# EAGLE library part MCU_ATTINY291 (library power_distro)
8-bit Microcontroller with 2/4/8K Bytes In-System Programmable Flash High Performance, Low Power AVR® 8-Bit Microcontroller Advanced RISC Architecture ? 123 Powerful Instructions ? Most Single Clock Cycle Execution ? 32 x 8 General Purpose Working Registers ? Fully Static Operation ? Up to 20 MIPS Throughput at 20 MHz High Endurance Non-volatile Memory Segments ? 2/4/8K Bytes of In-System Self-Programmable Flash Program Memory Endurance: 10,000 Write/Erase Cycles ? 128/256/512 Bytes of In-System Programmable EEPROM ? Endurance: 100,000 Write/Erase Cycles ? 128/256/512 Bytes of Internal SRAM ? Data retention: 20 Years at 85°C / 100 Years at 25°C ? In-System Programmable via SPI Port ? Programming Lock for Software Security Peripheral Features ? One 8/16-bit Timer/Counter with Prescaler ? One 8/10-bit High Speed Timer/Counter with Prescaler ? 3 High Frequency PWM Outputs with Separate Output Compare Registers ? Programmable Dead Time Generator ? 10-bit ADC ? 11 Single-Ended Channels ? 16 Differential ADC Channel Pairs ? 15 Differential ADC Channel Pairs with Programmable Gain (1x, 8x, 20x, 32x) ? On-Chip Analog Comparator ? Programmable Watchdog Timer with Separate On-Chip Oscillator ? Universal Serial Interface with Start Condition Detector ? Interrupt and Wake-up on Pin Change ? Special Microcontroller Features ? debugWIRE On-Chip Debug System ? Power-on Reset and Programmable Brown-out Detection ? Internal Calibrated Oscillator ? External and Internal Interrupt Sources ? Four Sleep Modes: Low Power Idle, ADC Noise Reduction, Standby and PowerDown ? On-Chip Temperature Sensor I/O and Packages ? 16 Programmable I/O Lines ? 20-pin PDIP, 20-pin SOIC, 20-pin TSSOP and 32-pad MLF Operating Voltage ? 1.8 ? 5.5V Speed Grades ? 0 ? 4 MHz @ 1.8 ? 5.5V ? 0 ? 10 MHz @ 2.7 ? 5.5V ? 0 ? 20 MHz @ 4.5 ? 5.5V Power Consumption at 1 MHz, 1.8V, 25°C ? Active: 200 µA ? Power-Down Mode: 0.1 µA
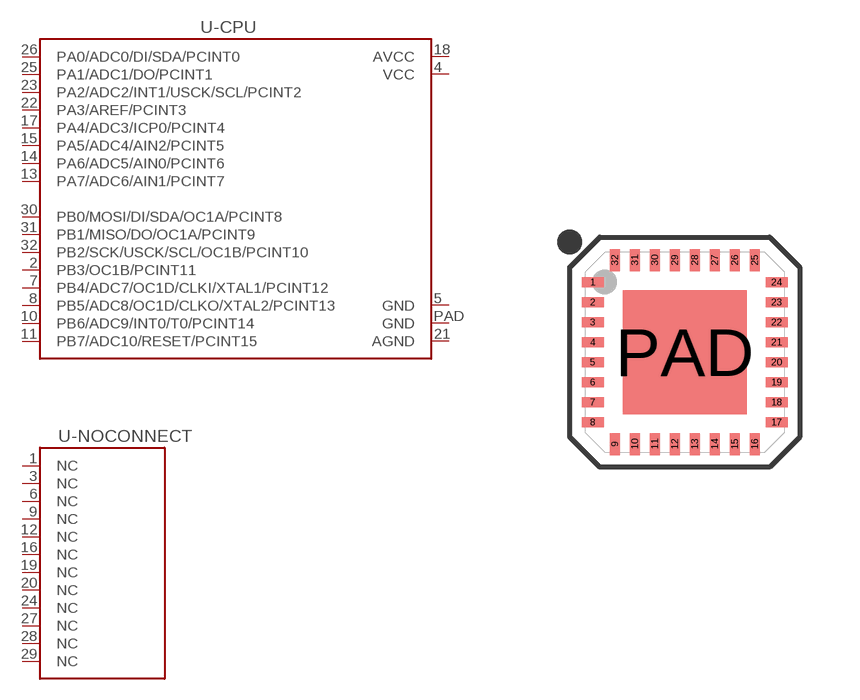
[diagram p2: symbol with the pads of QFN-32_5X5; footprint QFN-32_5X5]

Designator prefix U; gates -CPU=ATTINY291-CPU -NOCONNECT=ATTINY291-NOCONNECT

## MCU_ATTINY291 (MFG: ATMEL; MPN: ATtiny261A-MU; PRICE: 0.90; VENDOR: DIGIKEY; VPN: ATtiny261A-MU)  [QFN-32_5X5]
1  -NOCONNECT:NC  pas
2  -CPU:PB3/OC1B/PCINT11  pas
3  -NOCONNECT:NC  pas
4  -CPU:VCC  pas
5  -CPU:GND  pas
6  -NOCONNECT:NC  pas
7  -CPU:PB4/ADC7/OC1D/CLKI/XTAL1/PCINT12  pas
8  -CPU:PB5/ADC8/OC1D/CLKO/XTAL2/PCINT13  pas
9  -NOCONNECT:NC  pas
10  -CPU:PB6/ADC9/INT0/T0/PCINT14  pas
11  -CPU:PB7/ADC10/RESET/PCINT15  pas
12  -NOCONNECT:NC  pas
13  -CPU:PA7/ADC6/AIN1/PCINT7  pas
14  -CPU:PA6/ADC5/AIN0/PCINT6  pas
15  -CPU:PA5/ADC4/AIN2/PCINT5  pas
16  -NOCONNECT:NC  pas
17  -CPU:PA4/ADC3/ICP0/PCINT4  pas
18  -CPU:AVCC  pas
19  -NOCONNECT:NC  pas
20  -NOCONNECT:NC  pas
21  -CPU:AGND  pas
22  -CPU:PA3/AREF/PCINT3  pas
23  -CPU:PA2/ADC2/INT1/USCK/SCL/PCINT2  pas
24  -NOCONNECT:NC  pas
25  -CPU:PA1/ADC1/DO/PCINT1  pas
26  -CPU:PA0/ADC0/DI/SDA/PCINT0  pas
27  -NOCONNECT:NC  pas
28  -NOCONNECT:NC  pas
29  -NOCONNECT:NC  pas
30  -CPU:PB0/MOSI/DI/SDA/OC1A/PCINT8  pas
31  -CPU:PB1/MISO/DO/OC1A/PCINT9  pas
32  -CPU:PB2/SCK/USCK/SCL/OC1B/PCINT10  pas
PAD  -CPU:GND  pas

## Footprint QFN-32_5X5 (pad centres in mm)
A, 32-pad, 5 x 5 x 1.0 mm Body, Lead Pitch 0.50 mm 3.10 mm Exposed Pad, Micro Lead Frame Package (MLF)
smd 0.55 x 0.25: 1 -2.3,1.75; 2 -2.3,1.25; 3 -2.3,0.75; 4 -2.3,0.25; 5 -2.3,-0.25; 6 -2.3,-0.75; 7 -2.3,-1.25; 8 -2.3,-1.75; 17 2.3,-1.75; 18 2.3,-1.25; 19 2.3,-0.75; 20 2.3,-0.25; 21 2.3,0.25; 22 2.3,0.75; 23 2.3,1.25; 24 2.3,1.75
smd 0.25 x 0.55: 9 -1.75,-2.3; 10 -1.25,-2.3; 11 -0.75,-2.3; 12 -0.25,-2.3; 13 0.25,-2.3; 14 0.75,-2.3; 15 1.25,-2.3; 16 1.75,-2.3; 25 1.75,2.3; 26 1.25,2.3; 27 0.75,2.3; 28 0.25,2.3; 29 -0.25,2.3; 30 -0.75,2.3; 31 -1.25,2.3; 32 -1.75,2.3
smd 3.1 x 3.1: PAD 0,0